# Altium schematic symbol library ESC.SchLib: 108 symbols
Pins are listed as number, name and electrical type; pins without a type are passive.

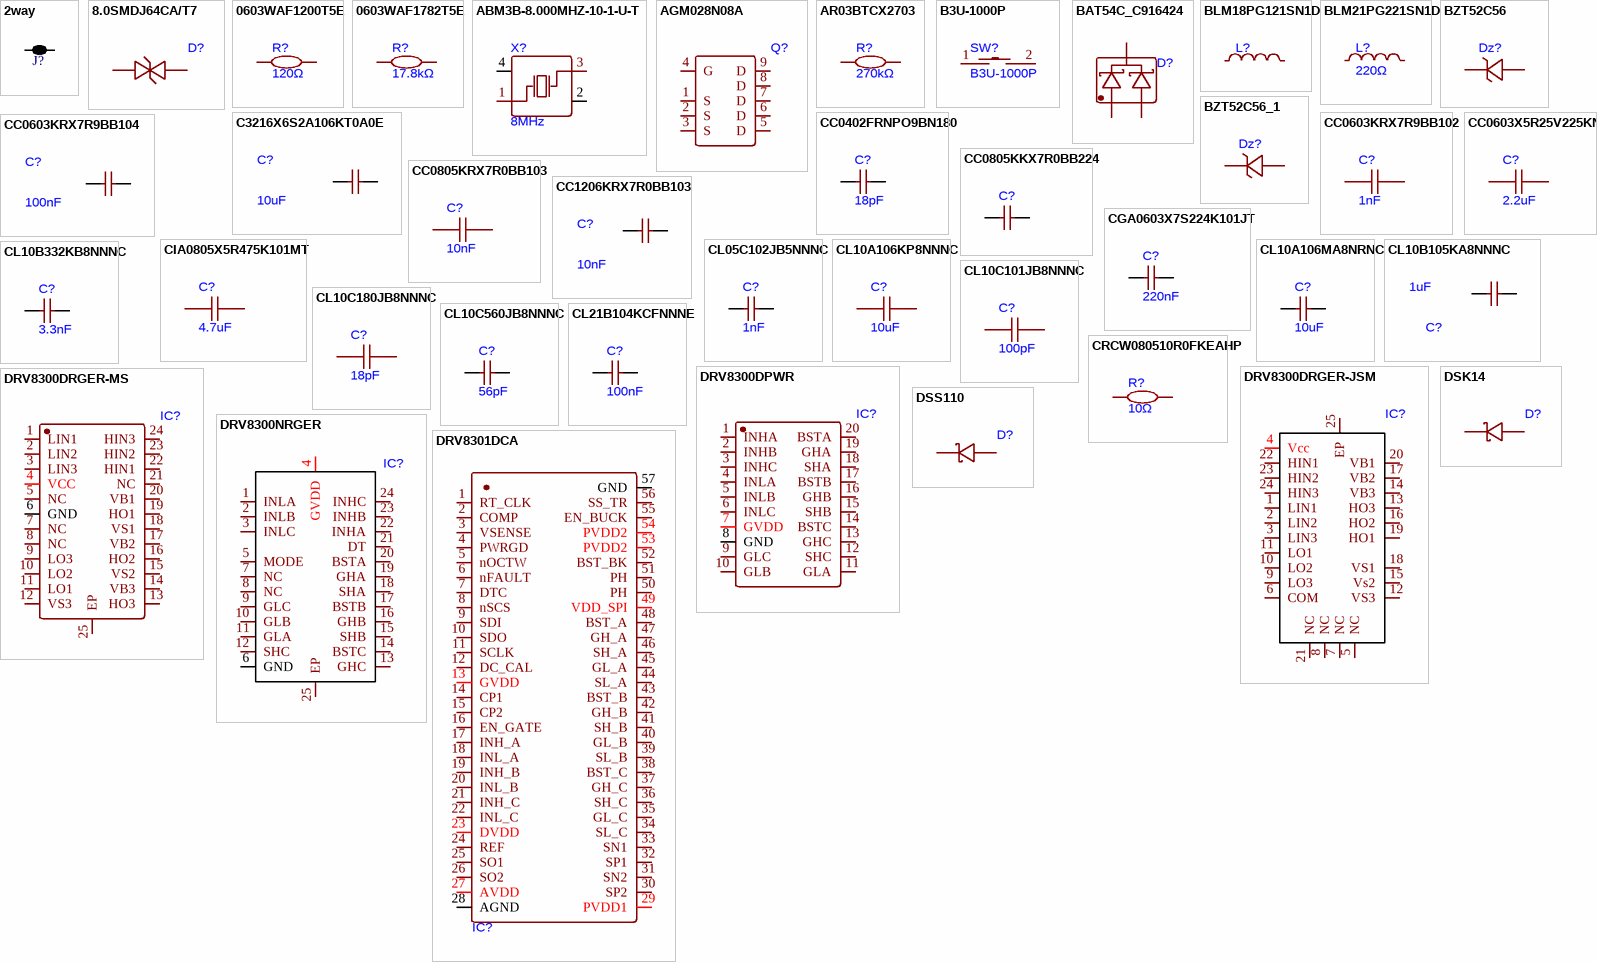
[diagram p0: symbols 2way to DSS110]

## 2way
designator J?, comment 2 way net tie junction  (value not drawn)  (net tie, no BOM)
ComponentLink1URL: http://www.edatools.cz/addons; ComponentLink1Description: Source; FootprintNote: LP=12mil, MP=40mil, HP=120mil
footprint 2way_LP (2 way low power net tie junction)
footprint 2way_MP (2 way medium power net tie junction)
footprint 2way_HP (2 way high power power net tie junction)
footprint NetTie_2mm (Net tie, 2mm round)
pins: 1, 2

## 8.0SMDJ64CA/T7
designator D?, comment TVS DIODE 64VWM 77.7VC DO-214AB  (value not drawn)
footprint SMC_L6.9-W5.9-LS7.9-BI
pins: 1, 2

## 0603WAF1200T5E
designator R?, comment 120Ω
120Ω ±1% 100mW 0603 Thick Film Resistor
footprint R0603 (Resister pakage 0603)
simulation model R_Resistor_Default (Model Description)
pins: 1, 2

## 0603WAF1782T5E
designator R?, comment 17.8kΩ
17.8kΩ ±1% 100mW 0603 Thick Film Resistor
footprint R0603 (Resister pakage 0603)
simulation model R_Resistor_Default (Model Description)
pins: 1, 2

## ABM3B-8.000MHZ-10-1-U-T
designator X?, comment 8MHz
Crystal 8MHz ±10ppm 10pF 200Ω SMD5032-4P
footprint OSC-SMD_4P-L5.0-W3.2-BL
pins: 1 OSC1, 2 GND, 3 OSC2, 4 GND

## AGM028N08A
designator Q?, comment MOSFET N-CH 85V 170A PDFN5x6-8L  (value not drawn)
footprint PDFN-8_L5.8-W5.1-P1.27-LS6.1-BL
pins: 1 S, 2 S, 3 S, 4 G, 5 D, 6 D, 7 D, 8 D, 9 D

## AR03BTCX2703
designator R?, comment 270kΩ
RES 270kΩ ±0.1% 100mW 0603
footprint R0603 (Resister pakage 0603)
simulation model R_Resistor_Default (Model Description)
pins: 1, 2

## B3U-1000P
designator SW?
12V 2.5mm Round Button 3mm SPST 50mA SMD,3x2.5mm Tactile Switches ROHS
footprint KEY-SMD_B3U-1000PM
pins: 1, 2

## BAT54C_C916424
designator D?, comment DIODE ARR SCHOTTKY 30V SOT-23  (value not drawn)
600mA 30V 1 Pair Common Cathode 1V@100mA 200mA SOT-23 Single Diodes RoHS
footprint SOT-23-3_L2.9-W1.3-P1.90-LS2.4-BR (DIODE ARR SCHOTTKY 30V SOT-23)
simulation model BAT54C (Model Description)
pins: 1, 2, 3

## BLM18PG121SN1D
designator L?, comment FERRITE BEAD 120Ω 0603 1LN  (value not drawn)
simulation model FB_220_ADV (Model Description)
footprint C0603 (cap 0603)
pins: 1, 2

## BLM21PG221SN1D
designator L?, comment 220Ω
220Ω@100MHz 1 Line Ferrite Bead 0805 2A 45mΩ
footprint C0805
simulation model FB_220_ADV (Model Description)
pins: 1, 2

## BZT52C56
designator Dz?, comment DIODE ZENER 56V 500mW SOD-123W  (value not drawn)
Zener Diode Independent 56V 500mW Surface Mount SOD-123W
footprint SOD-123_L2.8-W1.8-LS3.7-RD (SOD-123)
simulation model BZT52C56 (Model Description)
pins: 1 K, 2 A

## BZT52C56_1
designator Dz?, comment DIODE ZENER 56V 500mW SOD-123W  (value not drawn)
Zener Diode Independent 56V 500mW Surface Mount SOD-123W
footprint SOD-123_L2.8-W1.8-LS3.7-RD (SOD-123)
simulation model BZT52C56 (Model Description)
pins: 1 K, 2 A

## C3216X6S2A106KT0A0E
designator C?, comment 10uF
10uF X6S ±10% 100V 1206 Ceramic Capacitors RoHS
footprint C1206 (1206)
simulation model C_Capacitor_Default (Model Description)
pins: 1, 2

## CC0402FRNPO9BN180
designator C?, comment 18pF
CAP CER 18pF 50V NP0 0402
simulation model C_Capacitor_Default (Model Description)
footprint R0402 (0402)
pins: 1, 2

## CC0603KRX7R9BB102
designator C?, comment 1nF
1nF ±10% 50V Ceramic Capacitor X7R 0603
footprint C0603 (cap 0603)
pins: 1, 2

## CC0603KRX7R9BB104
designator C?, comment 100nF
100nF ±10% 50V Ceramic Capacitor X7R 0603
footprint C0603 (cap 0603)
simulation model C_Capacitor_Default (Model Description)
pins: 1, 2

## CC0603X5R25V225KN
designator C?, comment 2.2uF
2.2uF X5R ±10% 25V 0603 Ceramic Capacitors RoHS
footprint C0603 (cap 0603)
pins: 1, 2

## CC0805KKX7R0BB224
designator C?, comment 220nF  (value not drawn)
220nF ±10% 100V Ceramic Capacitor X7R 0805
footprint C0805
pins: 1, 2

## CC0805KRX7R0BB103
designator C?, comment 10nF
10nF ±10% 100V Ceramic Capacitor X7R 0805
footprint C0805
pins: 1, 2

## CC1206KRX7R0BB103
designator C?, comment 10nF
CAP CER 10nF 100V X7R 1206
footprint C1206 (1206)
pins: 1, 2

## CGA0603X7S224K101JT
designator C?, comment 220nF
220nF ±10% 100V Ceramic Capacitor X7S 0603
footprint C0603 (cap 0603)
simulation model C_Capacitor_Default (Model Description)
pins: 1, 2

## CIA0805X5R475K101MT
designator C?, comment 4.7uF
4.7uF ±10% 100V Ceramic Capacitor X5R 0805
footprint C0805
pins: 1, 2

## CL05C102JB5NNNC
designator C?, comment 1nF
CAP CER 1nF 50V C0G 0402
simulation model C_Capacitor_Default (Model Description)
footprint C0402 (cap)
pins: 1, 2

## CL10A106KP8NNNC
designator C?, comment 10uF
10uF ±10% 10V Ceramic Capacitor X5R 0603
footprint C0603 (cap 0603)
simulation model C_Capacitor_Default (Model Description)
pins: 1, 2

## CL10A106MA8NRNC
designator C?, comment 10uF
CAP CER 10uF 25V X5R 0603
simulation model C_Capacitor_Default (Model Description)
footprint C0603 (cap 0603)
pins: 1, 2

## CL10B105KA8NNNC
designator C?, comment 1uF
1uF ±10% 25V Ceramic Capacitor X7R 0603
footprint C0603 (cap 0603)
pins: 1, 2

## CL10B332KB8NNNC
designator C?, comment 3.3nF
CAP CER 3.3nF 50V X7R 0603
simulation model C_Capacitor_Default (Model Description)
footprint C0603 (cap 0603)
pins: 1, 2

## CL10C101JB8NNNC
designator C?, comment 100pF
100pF ±5% 50V Ceramic Capacitor C0G 0603
footprint C0603 (cap 0603)
simulation model C_Capacitor_Default (Model Description)
pins: 1, 2

## CL10C180JB8NNNC
designator C?, comment 18pF
18pF ±5% 50V Ceramic Capacitor C0G 0603
footprint C0603 (cap 0603)
simulation model C_Capacitor_Default (Model Description)
pins: 1, 2

## CL10C560JB8NNNC
designator C?, comment 56pF
CAP CER 56pF 50V C0G 0603
simulation model C_Capacitor_Default (Model Description)
footprint C0603 (cap 0603)
pins: 1, 2

## CL21B104KCFNNNE
designator C?, comment 100nF
100nF ±10% 100V Ceramic Capacitor X7R 0805
footprint C0805
simulation model C_Capacitor_Default (Model Description)
pins: 1, 2

## CRCW080510R0FKEAHP
designator R?, comment 10Ω
10Ω 500mW Thick Film Resistor ±100ppm/℃ ±1% 0805 Chip Resistor - Surface Mount RoHS
footprint R0603
footprint R1206 (package 1206)
footprint R0805 (0805)
pins: 1, 2

## DRV8300DPWR
designator IC?, comment 100V three-phase BLDC gate driver  (value not drawn)
footprint TSSOP-20_L6.5-W4.4-P0.65-LS6.4-BL
pins: 1 INHA, 2 INHB, 3 INHC, 4 INLA, 5 INLB, 6 INLC, 7 GVDD, 8 GND, 9 GLC, 10 GLB, 11 GLA, 12 SHC, 13 GHC, 14 BSTC, 15 SHB, 16 GHB, 17 BSTB, 18 SHA, 19 GHA, 20 BSTA

## DRV8300DRGER-JSM
designator IC?, comment Three-phase gate driver IC with 1.5A, 250V high-side and low-side in-phase integration and bootstrap  (value not drawn)
footprint QFN-24_L4.0-W4.0-P0.50-BL-EP2.7
pins: 1 LIN1, 2 LIN2, 3 LIN3, 4 Vcc, 5 NC, 6 COM, 7 NC, 8 NC, 9 LO3, 10 LO2, 11 LO1, 12 VS3, 13 HO3, 14 VB3, 15 Vs2, 16 HO2, 17 VB2, 18 VS1, 19 HO1, 20 VB1, 21 NC, 22 HIN1, 23 HIN2, 24 HIN3, 25 EP

## DRV8300DRGER-MS
designator IC?, comment VQFN-24(4x4) Gate Drivers RoHS  (value not drawn)
footprint QFN-24_L4.0-W4.0-P0.50-BL-EP2.7 (QFN-24)
pins: 1 LIN1, 2 LIN2, 3 LIN3, 4 VCC, 5 NC, 6 GND, 7 NC, 8 NC, 9 LO3, 10 LO2, 11 LO1, 12 VS3, 13 HO3, 14 VB3, 15 VS2, 16 HO2, 17 VB2, 18 VS1, 19 HO1, 20 VB1, 21 NC, 22 HIN1, 23 HIN2, 24 HIN3, 25 EP

## DRV8300NRGER
designator IC?, comment 100V three-phase BLDC gate driver  (value not drawn)
footprint QFN-24_L4.0-W4.0-P0.50-BL-EP2.7 (QFN-24)
pins: 1 INLA, 2 INLB, 3 INLC, 4 GVDD, 5 MODE, 6 GND, 7 NC, 8 NC, 9 GLC, 10 GLB, 11 GLA, 12 SHC, 13 GHC, 14 BSTC, 15 SHB, 16 GHB, 17 BSTB, 18 SHA, 19 GHA, 20 BSTA, 21 DT, 22 INHA, 23 INHB, 24 INHC, 25 EP

## DRV8301DCA
designator IC?, comment DRV8301 Three-Phase Gate Driver With Dual Current Shunt Amplifiers and Buck Regulator  (value not drawn)
MOSFET 1.7A 2.3A HTSSOP-56-EP-6mm Motor Drivers, Controllers RoHS
footprint HTSSOP-56_L14.0-W6.0-P0.50-LS8.1-BL-EP (HTSSOP-56-EP-6mm)
simulation model DRV8301 (Model Description)
pins: 1 RT_CLK, 2 COMP, 3 VSENSE, 4 PWRGD, 5 nOCTW, 6 nFAULT, 7 DTC, 8 nSCS, 9 SDI, 10 SDO, 11 SCLK, 12 DC_CAL, 13 GVDD, 14 CP1, 15 CP2, 16 EN_GATE, 17 INH_A, 18 INL_A, 19 INH_B, 20 INL_B, 21 INH_C, 22 INL_C, 23 DVDD, 24 REF, 25 SO1, 26 SO2, 27 AVDD, 28 AGND, 29 PVDD1, 30 SP2, 31 SN2, 32 SP1, 33 SN1, 34 SL_C, 35 GL_C, 36 SH_C, 37 GH_C, 38 BST_C, 39 SL_B, 40 GL_B, 41 SH_B, 42 GH_B, 43 BST_B, 44 SL_A, 45 GL_A, 46 SH_A, 47 GH_A, 48 BST_A, 49 VDD_SPI, 50 PH, 51 PH, 52 BST_BK, 53 PVDD2, 54 PVDD2, 55 EN_BUCK, 56 SS_TR, 57 GND

## DSK14
designator D?, comment DIODE SCHOTTKY 100V SOD-123FL  (value not drawn)
DIODE SCHOTTKY 40V SOD-123FL
footprint SOD-123FL_L2.7-W1.8-LS3.8-RD
pins: 1, 2

## DSS110
designator D?, comment DIODE SCHOTTKY 100V SOD-123FL  (value not drawn)
footprint SOD-123FL_L2.7-W1.8-LS3.8-RD
pins: 1, 2

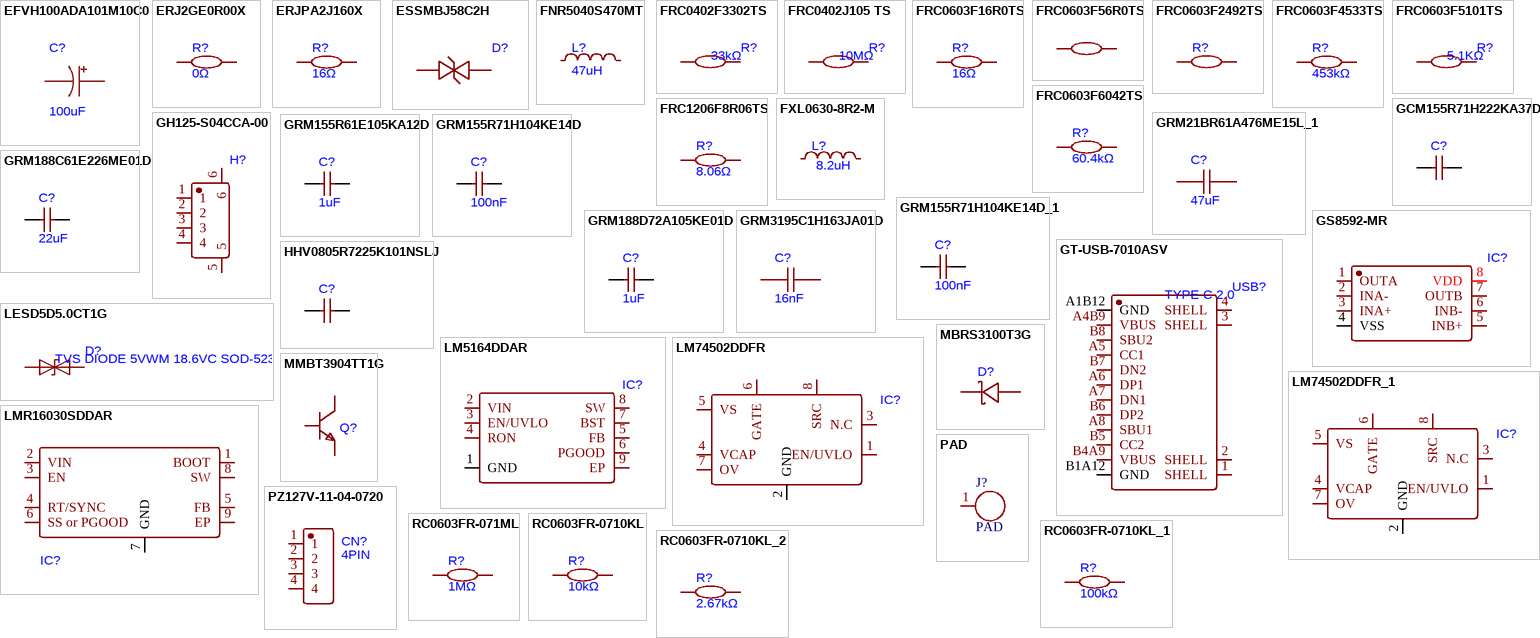
[diagram p1: symbols EFVH100ADA101M10C0 to RC0603FR-0710KL_2]

## EFVH100ADA101M10C0
designator C?, comment 100uF
100uF ±20% 100V Aluminum Electrolytic Capacitors
footprint CAP-SMD_BD10.0-L10.3-W10.3-FD (SMD,D10xL12.5mm)
simulation model C_Capacitor_Default (Model Description)
pins: 1, 2

## ERJ2GE0R00X
designator R?, comment 0Ω
RES 0Ω 0.1W 0402
simulation model R_Resistor_Default (Model Description)
footprint R0402 (0402)
pins: 1, 2

## ERJPA2J160X
designator R?, comment 16Ω
RES 16Ω ±5% 200mW 0402
simulation model R_Resistor_Default (Model Description)
footprint R0402 (0402)
pins: 1, 2

## ESSMBJ58C2H
designator D?, comment TVS DIODE 58VWM 85VC SMB  (value not drawn)
footprint DO-214AA_L4.4-W3.6-LS5.3-RD
pins: 1, 2

## FNR5040S470MT
designator L?, comment 47uH
1.15A 47uH ±20% 1.2A 354mΩ Magnetic Shielded Inductor SMD,5x5mm Fixed Inductors RoHS
footprint IND-SMD_L5.0-W5.0_FNR50XXS
pins: 1, 2

## FRC0402F3302TS
designator R?, comment 33kΩ
RES 33kΩ ±1% 62.5mW 0402
footprint R0402 (0402)
pins: 1, 2

## FRC0402J105 TS
designator R?, comment 10MΩ
RES 1MΩ ±5% 62.5mW 0402
footprint R0402 (0402)
pins: 1, 2

## FRC0603F16R0TS
designator R?, comment 16Ω
RES 16Ω ±1% 100mW 0603
footprint R0603
pins: 1, 2

## FRC0603F56R0TS
designator R?, comment 56Ω  (value not drawn)
56Ω ±1% 100mW 0603 Thick Film Resistor
footprint R0603 (Resister pakage 0603)
pins: 1, 2

## FRC0603F2492TS
designator R?, comment 24.9KΩ  (value not drawn)
24.9kΩ ±1% 100mW 0603 Thick Film Resistor
footprint R0603 (Resister pakage 0603)
pins: 1, 2

## FRC0603F4533TS
designator R?, comment 453kΩ
RES 453kΩ ±1% 100mW 0603
footprint R0603 (Resister pakage 0603)
simulation model R_Resistor_Default (Model Description)
pins: 1, 2

## FRC0603F5101TS
designator R?, comment 5.1KΩ
100mW 5.1kΩ 75V ±100ppm/℃ Thick Film Resistor ±1% 0603 Chip Resistor - Surface Mount RoHS
footprint R0603
pins: 1, 2

## FRC0603F6042TS
designator R?, comment 60.4kΩ
RES 60.4kΩ ±1% 100mW 0603
footprint R0603 (Resister pakage 0603)
simulation model R_Resistor_Default (Model Description)
pins: 1, 2

## FRC1206F8R06TS
designator R?, comment 8.06Ω
8.06Ω ±1% 250mW 1206 Thick Film Resistor
footprint R0603
footprint R1206 (package 1206)
pins: 1, 2

## FXL0630-8R2-M
designator L?, comment 8.2uH
5A 8.2uH 6A 60mΩ Molded Inductor ±20% SMD,7x6.6mm Fixed Inductors RoHS
footprint IND-SMD_L7.0-W6.6_FXL0630 (SMD,7x6.6mm)
simulation model L_Inductor_Default (Model Description)
pins: 1, 2

## GCM155R71H222KA37D
designator C?, comment 2.2nF  (value not drawn)
CAP CER 2.2nF 50V X7R 0402
footprint C0805
pins: 1, 2

## GH125-S04CCA-00
designator H?, comment CONN HEADER SMD 4POS 1.25mm  (value not drawn)
footprint CONN-SMD_4P-P1.25_JS_GH125-S04CCA-00
pins: 1, 2, 3, 4, 5, 6

## GRM21BR61A476ME15L_1
designator C?, comment 47uF
47uF ±20% 10V Ceramic Capacitor X5R 0805
footprint C0603 (cap 0603)
simulation model C_Capacitor_Default (Model Description)
pins: 1, 2

## GRM155R61E105KA12D
designator C?, comment 1uF
CAP CER 1uF 25V X5R 0402
simulation model C_Capacitor_Default (Model Description)
footprint C0402 (cap)
pins: 1, 2

## GRM155R71H104KE14D
designator C?, comment 100nF
CAP CER 100nF 50V X7R 0402
simulation model C_Capacitor_Default (Model Description)
footprint C0402 (cap)
pins: 1, 2

## GRM155R71H104KE14D_1
designator C?, comment 100nF
CAP CER 100nF 50V X7R 0402
simulation model C_Capacitor_Default (Model Description)
footprint R0402 (0402)
pins: 1, 2

## GRM188C61E226ME01D
designator C?, comment 22uF
CAP CER 22uF 25V 0603
simulation model C_Capacitor_Default (Model Description)
footprint C0603 (cap 0603)
pins: 1, 2

## GRM188D72A105KE01D
designator C?, comment 1uF
1uF ±10% 100V Ceramic Capacitor X7T 0603
footprint C0603 (cap 0603)
simulation model C_Capacitor_Default (Model Description)
pins: 1, 2

## GRM3195C1H163JA01D
designator C?, comment 16nF
16nF ±5% 50V Ceramic Capacitor C0G 1206
footprint C1206 (1206)
simulation model C_Capacitor_Default (Model Description)
pins: 1, 2

## GS8592-MR
designator IC?, comment Zero-Drift CMOS Rail-to-Rail I/O Opamp with RF Filter  (value not drawn)
footprint MSOP-8_L3.0-W3.0-P0.65-LS5.0-BL
pins: 1 OUTA, 2 INA-, 3 INA+, 4 VSS, 5 INB+, 6 INB-, 7 OUTB, 8 VDD

## GT-USB-7010ASV
designator USB?, comment TYPE C 2.0
USB 2.0 1 16P -40℃~+85℃ Type-C SMD USB, DVI, HDMI Connector Assemblies RoHS
footprint USB-C-SMD_G-SWITCH_GT-USB-7010ASV
pins: 1 SHELL, 2 SHELL, 3 SHELL, 4 SHELL, A1B12 GND, A4B9 VBUS, A5 CC1, A6 DP1, A7 DN1, A8 SBU1, B1A12 GND, B4A9 VBUS, B5 CC2, B6 DP2, B7 DN2, B8 SBU2

## HHV0805R7225K101NSLJ
designator C?, comment 2.2uF  (value not drawn)
CAP CER 2.2uF 100V X7R 0805
footprint C0805
pins: 1, 2

## LESD5D5.0CT1G
designator D?, comment TVS DIODE 5VWM 18.6VC SOD-523
9.4A@8/20us 18.6V 7.8V 5V SOD-523 TVS Diodes RoHS
footprint SOD-523_L1.2-W0.8-LS1.6-BI (Footprint not found)
pins: 1 K, 2 A

## LM5164DDAR
designator IC?, comment 100-V Input, 1-A Synchronous Buck DC/DC Converter  (value not drawn)
footprint SO-8_L4.9-W3.9-P1.27-LS6.0-BL-EP
pins: 1 GND, 2 VIN, 3 EN/UVLO, 4 RON, 5 FB, 6 PGOOD, 7 BST, 8 SW, 9 EP

## LM74502DDFR
designator IC?, comment TSOT-23-8 OR Controllers, Ideal Diodes RoHS  (value not drawn)
Low-IQ high-side switch controller with reverse polarity protection and overvoltage protection functions
footprint SOT-23-8_L2.9-W1.6-P0.65-LS2.8-BL (TSOT-23-8)
simulation model LM74502_TOP (Model Description)
pins: 1 EN/UVLO, 2 GND, 3 N.C, 4 VCAP, 5 VS, 6 GATE, 7 OV, 8 SRC

## LM74502DDFR_1
designator IC?, comment TSOT-23-8 OR Controllers, Ideal Diodes RoHS  (value not drawn)
Low-IQ high-side switch controller with reverse polarity protection and overvoltage protection functions
footprint SOT-23-8_L2.9-W1.6-P0.65-LS2.8-BL (TSOT-23-8)
simulation model LM74502_TOP (Model Description)
pins: 1 EN/UVLO, 2 GND, 3 N.C, 4 VCAP, 5 VS, 6 GATE, 7 OV, 8 SRC

## LMR16030SDDAR
designator IC?, comment 60V 3A Step-Down Converter  (value not drawn)
2.5MHz Buck Adjustable 800mV~50V 3A 4.3V~60V SO-8-EP Voltage Regulators - DC DC Switching Regulators RoHS
footprint SOIC-8_L4.9-W3.9-P1.27-LS6.0-BL-EP2.3
simulation model LMR16030S_TRANS (Model Description)
pins: 1 BOOT, 2 VIN, 3 EN, 4 RT/SYNC, 5 FB, 6 SS or PGOOD, 7 GND, 8 SW, 9 EP

## MBRS3100T3G
designator D?, comment DIODE SCHOTTKY 100V DO-214AB  (value not drawn)
Diode 100V 3A Surface Mount DO-214AB
footprint SMC_L7.1-W6.2-LS8.1-RD (DO-214AB)
simulation model Dmbrs3100lt3 (Model Description)
pins: 1 C, 2 A

## MMBT3904TT1G
designator Q?, comment TRANS NPN 40V 200mA SOT-416  (value not drawn)
Bipolar (BJT) Transistor NPN 40V 200mA 300MHz 200mW Surface Mount SOT-416
footprint SC-75-3_L1.6-W0.8-P1.00-LS1.6-BR (SOT-416)
simulation model MMBT3904 (Model Description)
pins: 1 B, 2 E, 3 C

## PAD
designator J?
footprint PAD
pins: 1

## PZ127V-11-04-0720
designator CN?, comment 4PIN
CONN HEADER 4POS 1.27mm SINGLE ROW TH
footprint HDR-TH_4P-P1.27-V-M (PITCH 1.27)
footprint HDR-TH_4P-P1.27-V-M (PITCH 1.27)
pins: 1, 2, 3, 4

## RC0603FR-071ML
designator R?, comment 1MΩ
100mW 1MΩ 75V Thick Film Resistor ±100ppm/℃ ±1% 0603 Chip Resistor - Surface Mount RoHS
footprint R0603 (Resister pakage 0603)
simulation model R_Resistor_Default (Model Description)
pins: 1, 2

## RC0603FR-0710KL
designator R?, comment 10kΩ
100mW 10kΩ 75V ±100ppm/℃ Thick Film Resistor ±1% 0603 Chip Resistor - Surface Mount ROHS
footprint R0603 (Resister pakage 0603)
pins: 1, 2

## RC0603FR-0710KL_1
designator R?, comment 100kΩ
100mW 10kΩ 75V ±100ppm/℃ Thick Film Resistor ±1% 0603 Chip Resistor - Surface Mount ROHS
footprint R0603 (Resister pakage 0603)
simulation model R_Resistor_Default (Model Description)
pins: 1, 2

## RC0603FR-0710KL_2
designator R?, comment 2.67kΩ
100mW 10kΩ 75V ±100ppm/℃ Thick Film Resistor ±1% 0603 Chip Resistor - Surface Mount ROHS
footprint R0603 (Resister pakage 0603)
simulation model R_Resistor_Default (Model Description)
pins: 1, 2

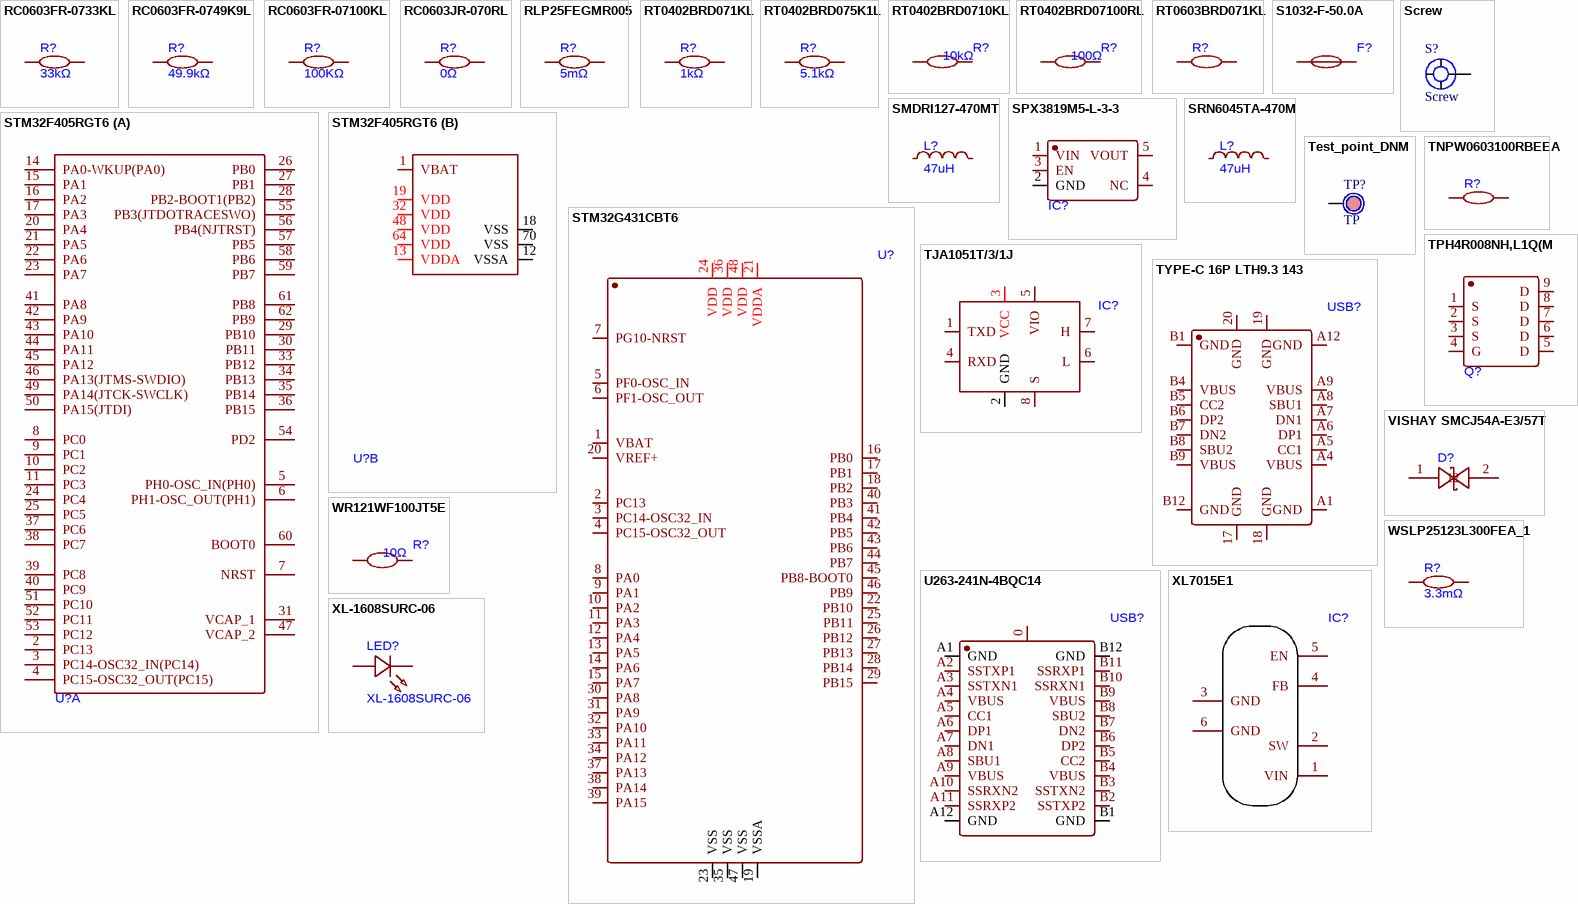
[diagram p2: symbols RC0603FR-0733KL to XL-1608SURC-06]

## RC0603FR-0733KL
designator R?, comment 33kΩ
100mW 33kΩ 75V Thick Film Resistor ±100ppm/℃ ±1% 0603 Chip Resistor - Surface Mount RoHS
footprint R0603 (Resister pakage 0603)
simulation model R_Resistor_Default (Model Description)
pins: 1, 2

## RC0603FR-0749K9L
designator R?, comment 49.9kΩ
100mW 49.9kΩ 75V Thick Film Resistor ±100ppm/℃ ±1% 0603 Chip Resistor - Surface Mount RoHS
footprint R0603 (Resister pakage 0603)
simulation model R_Resistor_Default (Model Description)
pins: 1, 2

## RC0603FR-07100KL
designator R?, comment 100KΩ
100mW 100kΩ 75V Thick Film Resistor ±100ppm/℃ ±1% 0603 Chip Resistor - Surface Mount RoHS
footprint R0603 (Resister pakage 0603)
simulation model R_Resistor_Default (Model Description)
pins: 1, 2

## RC0603JR-070RL
designator R?, comment 0Ω
RES 0Ω ±5% 100mW 0603
footprint R0603 (Resister pakage 0603)
simulation model R_Resistor_Default (Model Description)
pins: 1, 2

## RLP25FEGMR005
designator R?, comment 5mΩ
RES 5mΩ ±1% 3W 2512
footprint R0603
footprint R2512
pins: 1, 2

## RT0402BRD071KL
designator R?, comment 1kΩ
RES 1kΩ ±0.1% 62.5mW 0402
simulation model R_Resistor_Default (Model Description)
footprint R0402 (0402)
pins: 1, 2

## RT0402BRD075K1L
designator R?, comment 5.1kΩ
RES 5.1kΩ ±0.1% 62.5mW 0402
simulation model R_Resistor_Default (Model Description)
footprint R0402 (0402)
pins: 1, 2

## RT0402BRD0710KL
designator R?, comment 10kΩ
RES 10kΩ ±0.1% 62.5mW 0402
footprint R0402 (0402)
pins: 1, 2

## RT0402BRD07100RL
designator R?, comment 100Ω
RES 100Ω ±0.1% 62.5mW 0402
footprint R0402 (0402)
pins: 1, 2

## RT0603BRD071KL
designator R?, comment 1KΩ  (value not drawn)
RES 1kΩ ±0.1% 100mW 0603
footprint R0603 (Resister pakage 0603)
pins: 1, 2

## S1032-F-50.0A
designator F?, comment FUSE BRD MNT 50A SMD  (value not drawn)
footprint FUSE-SMD_L10.3-W3.2
pins: 1, 2

## Screw
designator S?
footprint Screw Hole 4mm
footprint Screw Hole 4mm
pins: 1

## SMDRI127-470MT
designator L?, comment 47uH
2.5A 47uH 4.6A 100mΩ Magnetic Shielded Inductor ±20% SMD,12.3x12.3mm Fixed Inductors RoHS
footprint IND-SMD_L12.3-W12.3 (SMD,12.3x12.3mm)
simulation model L_Inductor_Default (Model Description)
pins: 1, 2

## SPX3819M5-L-3-3
designator IC?, comment 500mA Low-Noise LDo Voltage Regulator  (value not drawn)
3.3V 16V Positive Fixed SOT-23-5 Voltage Regulators - Linear, Low Drop Out (LDO) Regulators RoHS
footprint SOT-23-5_L3.0-W1.6-P0.95-LS2.8-BR
footprint SOT-23-5_L2.9-W1.6-P0.95-LS2.8-BR (SOT-23-5)
simulation model SPX3819 (Model Description)
pins: 1 VIN, 2 GND, 3 EN, 4 NC, 5 VOUT

## SRN6045TA-470M
designator L?, comment 47uH
FIXED IND 47uH 1.6A 200mΩ SMD,6x6mmSMD,5x5mm Fixed Inductors RoHS
footprint IND-SMD_L6.0-W6.0 (SMD,6x6mm)
pins: 1, 2

## STM32F405RGT6
designator U?, comment ARM Cortex-M4 32b MCU+FPU, 210DMIPS, up to 1MB Flash/192+4KB RAM, USB OTG HS/FS, Ethernet, 17 TIMs, 3 ADCs, 15 comm. interfaces & camera  (value not drawn)
ARM Cortex-M4 32 Bit 168MHz 51 LQFP-64(10x10) Microcontrollers RoHS
footprint LQFP-64_L10.0-W10.0-P0.50-LS12.0-BL (LQFP-64(10x10))
ibis stm32f405_415_407_417_lqfp64 (Model Description)
part A pins: 2 PC13, 3 PC14-OSC32_IN(PC14), 4 PC15-OSC32_OUT(PC15), 5 PH0-OSC_IN(PH0), 6 PH1-OSC_OUT(PH1), 7 NRST, 8 PC0, 9 PC1, 10 PC2, 11 PC3, 14 PA0-WKUP(PA0), 15 PA1, 16 PA2, 17 PA3, 20 PA4, 21 PA5, 22 PA6, 23 PA7, 24 PC4, 25 PC5, 26 PB0, 27 PB1, 28 PB2-BOOT1(PB2), 29 PB10, 30 PB11, 31 VCAP_1, 33 PB12, 34 PB13, 35 PB14, 36 PB15, 37 PC6, 38 PC7, 39 PC8, 40 PC9, 41 PA8, 42 PA9, 43 PA10, 44 PA11, 45 PA12, 46 PA13(JTMS-SWDIO), 47 VCAP_2, 49 PA14(JTCK-SWCLK), 50 PA15(JTDI), 51 PC10, 52 PC11, 53 PC12, 54 PD2, 55 PB3(JTDOTRACESWO), 56 PB4(NJTRST), 57 PB5, 58 PB6, 59 PB7, 60 BOOT0, 61 PB8, 62 PB9
part B pins: 1 VBAT, 12 VSSA, 13 VDDA, 18 VSS, 19 VDD, 32 VDD, 48 VDD, 64 VDD, 70 VSS

## STM32G431CBT6
designator U?, comment Arm Cortex-M4 32-bit MCU+FPU, 170 MHz / 213 DMIPS, up to 128 KB Flash, 32 KB SRAM, rich analog, math accelerator  (value not drawn)
footprint LQFP-48_L7.0-W7.0-P0.50-LS9.0-BL
pins: 1 VBAT, 2 PC13, 3 PC14-OSC32_IN, 4 PC15-OSC32_OUT, 5 PF0-OSC_IN, 6 PF1-OSC_OUT, 7 PG10-NRST, 8 PA0, 9 PA1, 10 PA2, 11 PA3, 12 PA4, 13 PA5, 14 PA6, 15 PA7, 16 PB0, 17 PB1, 18 PB2, 19 VSSA, 20 VREF+, 21 VDDA, 22 PB10, 23 VSS, 24 VDD, 25 PB11, 26 PB12, 27 PB13, 28 PB14, 29 PB15, 30 PA8, 31 PA9, 32 PA10, 33 PA11, 34 PA12, 35 VSS, 36 VDD, 37 PA13, 38 PA14, 39 PA15, 40 PB3, 41 PB4, 42 PB5, 43 PB6, 44 PB7, 45 PB8-BOOT0, 46 PB9, 47 VSS, 48 VDD

## Test_point_DNM
designator TP?, comment TP
Test Point; Value: Test Point
footprint Test_point_DNM (Test point do not mount)
footprint TP6 (Jac cap 6ly)
footprint Test_point_SMD
pins: 1

## TJA1051T/3/1J
designator IC?, comment High-speed CAN transceiver  (value not drawn)
4.5V~5.5V CAN FD Transceiver SOIC-8-150mil Drivers, Receivers, Transceivers RoHS
footprint SOIC-8_L4.9-W3.9-P1.27-LS6.0-BL (SOIC-8-150mil)
pins: 1 TXD, 2 GND, 3 VCC, 4 RXD, 5 VIO, 6 L, 7 H, 8 S

## TNPW0603100RBEEA
designator R?, comment 100Ω  (value not drawn)
RES 100Ω ±0.1% 100mW 0603
footprint R0603 (Resister pakage 0603)
pins: 1, 2

## TPH4R008NH,L1Q(M
designator Q?, comment MOSFET N-CH 80V 100A SOP-8-Advance  (value not drawn)
N-Channel 80V 100A 78W SOP-8-Advance
footprint SOP-8_L5.0-W5.0-P1.27-LS6.0_TPH4R008NH-L1Q
simulation model TPH4R008QM_G0_00 (Model Description)
pins: 1 S, 2 S, 3 S, 4 G, 5 D, 6 D, 7 D, 8 D, 9 D

## TYPE-C 16P LTH9.3 143
designator USB?, comment CONN RCPT Type-C 16POS SMD  (value not drawn)
footprint TYPE-C-SMD_TYPE-C-16P-LTH9.3-143
pins: 17 GND, 18 GND, 19 GND, 20 GND, A1 GND, A4 VBUS, A5 CC1, A6 DP1, A7 DN1, A8 SBU1, A9 VBUS, A12 GND, B1 GND, B4 VBUS, B5 CC2, B6 DP2, B7 DN2, B8 SBU2, B9 VBUS, B12 GND

## U263-241N-4BQC14
designator USB?, comment CONN RCPT Type-C 24POS SMD  (value not drawn)
footprint USB-C-SMD_U263-241N-4BQC14
pins: 0 SHELL, A1 GND, A2 SSTXP1, A3 SSTXN1, A4 VBUS, A5 CC1, A6 DP1, A7 DN1, A8 SBU1, A9 VBUS, A10 SSRXN2, A11 SSRXP2, A12 GND, B1 GND, B2 SSTXP2, B3 SSTXN2, B4 VBUS, B5 CC2, B6 DP2, B7 DN2, B8 SBU2, B9 VBUS, B10 SSRXN1, B11 SSRXP1, B12 GND

## VISHAY SMCJ54A-E3/57T
designator D?, comment TVS DIODE 54VWM 87.1VC DO-214AB(SMCJ)  (value not drawn)
87.1VC Clamp 17.2A Ipp TVS DIODE DO-214AB(SMCJ)
footprint SMB_L4.6-W3.6-LS5.3-BI
simulation model smcj54a (Model Description)
pins: 1, 2

## WR121WF100JT5E
designator R?, comment 10Ω
RES 10Ω ±1% 1W 0612
footprint R0612
pins: 1, 2

## WSLP25123L300FEA_1
designator R?, comment 3.3mΩ
3.3mΩ 3W Current Sense Resistor ±1% ±150ppm/℃ 2512 Chip Resistor - Surface Mount RoHS
footprint R0603
footprint R2512
pins: 1, 2

## XL7015E1
designator IC?, comment 100V High-Efficiency Buck DC-DC Converter  (value not drawn)
footprint TO-252-5_L6.6-W5.8-P1.27-TL
pins: 1 VIN, 2 SW, 3 GND, 4 FB, 5 EN, 6 GND

## XL-1608SURC-06
designator LED?
20mA 2.3V Red 50mW 0603 LED Indication - Discrete ROHS
footprint LED0603-RD_RED
signal-integrity model Guessed Model (Inductor Model Details Guessed by Setup Helper)
simulation model L_Inductor_Default
signal-integrity model Model Name (Model Description)
pins: 1 K, 2 A